# EAGLE library part FEATHER_M0 (library epifib)
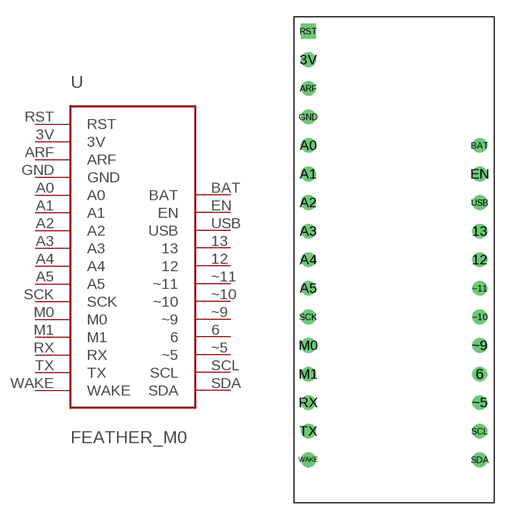
[diagram p0: symbol with the pads of FEATHER_M0; footprint FEATHER_M0]

Designator prefix U

## FEATHER_M0  [FEATHER_M0]
3V  3V
6  6
12  12
13  13
A0  A0
A1  A1
A2  A2
A3  A3
A4  A4
A5  A5
ARF  ARF
BAT  BAT
EN  EN
GND  GND
M0  M0
M1  M1
RST  RST
RX  RX
SCK  SCK
SCL  SCL
SDA  SDA
TX  TX
USB  USB
WAKE  WAKE
~5  ~5
~9  ~9
~10  ~10
~11  ~11

## Footprint FEATHER_M0 (pad centres in mm)
drill 0.8: 3V 1.27,-3.81; 6 16.51,-31.75; 12 16.51,-21.59; 13 16.51,-19.05; A0 1.27,-11.43; A1 1.27,-13.97; A2 1.27,-16.51; A3 1.27,-19.05; A4 1.27,-21.59; A5 1.27,-24.13; ARF 1.27,-6.35; BAT 16.51,-11.43; EN 16.51,-13.97; GND 1.27,-8.89; M0 1.27,-29.21; M1 1.27,-31.75; RX 1.27,-34.29; SCK 1.27,-26.67; SCL 16.51,-36.83; SDA 16.51,-39.37; TX 1.27,-36.83; USB 16.51,-16.51; WAKE 1.27,-39.37; ~5 16.51,-34.29; ~9 16.51,-29.21; ~10 16.51,-26.67; ~11 16.51,-24.13
drill 0.8 square: RST 1.27,-1.27